# EAGLE library part 24AA1025-I/P (library Microchip_By_element14_Batch_1)
CMOS Serial EEPROM
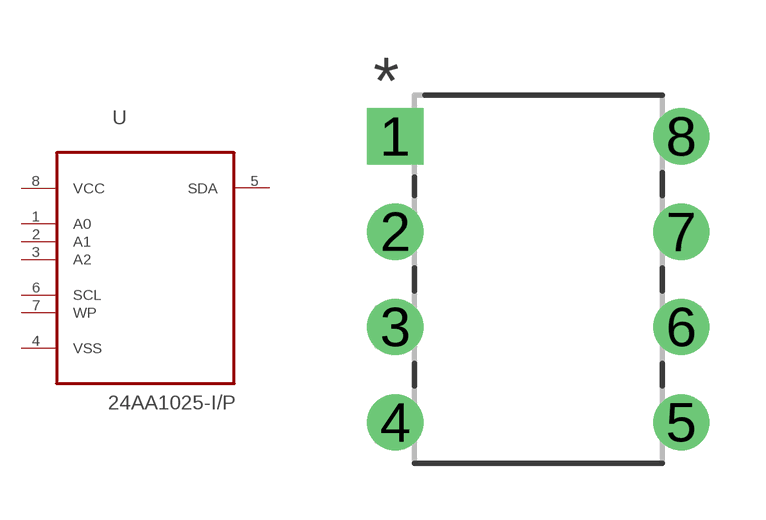
[diagram p3: symbol with the pads of DIP254P762X432-8; footprint DIP254P762X432-8]

Designator prefix -

## 24AA1025-I/P (MPN: 24AA1025-I/P; OC_FARNELL: 1467720; OC_NEWARK: 56K7661; PACKAGE: DIP-8; SUPPLIER: Microchip)  [DIP254P762X432-8]
1  A0  in
2  A1  in
3  A2  in
4  VSS  pas
5  SDA
6  SCL  in
7  WP  in
8  VCC  pwr

## Footprint DIP254P762X432-8 (pad centres in mm)
drill 0.991 square: 1 -7.62,7.62
drill 0.991: 2 -7.62,5.08; 3 -7.62,2.54; 4 -7.62,0; 5 0,0; 6 0,2.54; 7 0,5.08; 8 0,7.62